# Altium footprint library SMT-6_6.3mm.PcbLib: 1 footprints
Each footprint in its own frame and in the unit in brackets; x right, y up, seen from the top. Pads: shape width x height; smd on the part's side, far side on the other; paste and mask are expansions set on the pad; w line width, h text height; cw(c..) or ccw(c..) is an arc to the next point about the centre after c.
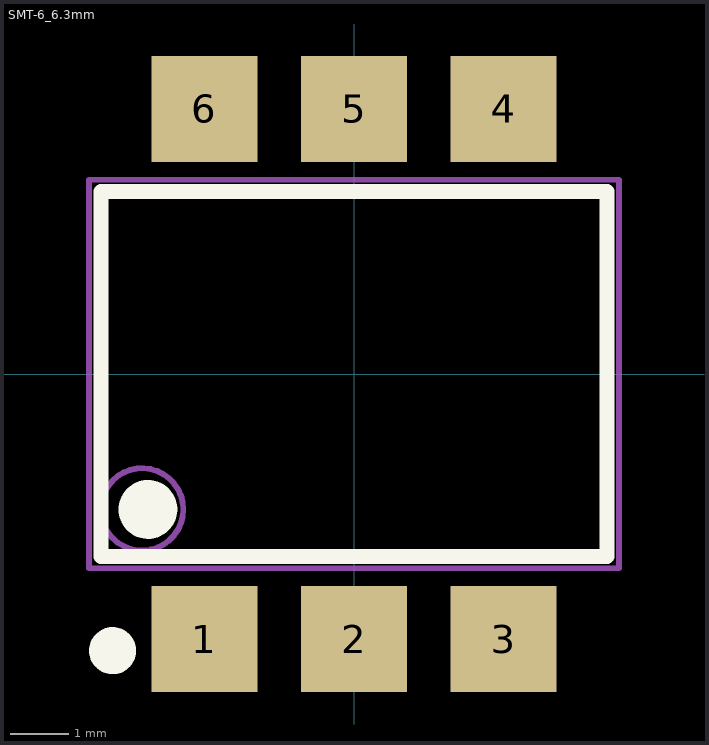
[diagram p0: the footprint, top view; thin cyan lines are the x and y axes]

## SMT-6_6.3mm [mm]
pads (6):
  rect 1.8x1.8 smd: 1(-2.54,-4.505) 2(0,-4.505) 3(2.54,-4.505) 4(2.54,4.505) 5(0,4.505) 6(-2.54,4.505)
Top Overlay:
  circle w0.5: c-3.5,-2.3 r0.25
  circle w0.4: c-4.1,-4.7 r0.2
  lines w0.254: -4.3,-3.1 -4.3,3.1 4.3,3.1 4.3,-3.1 -4.3,-3.1
Mechanical 13:
  circle w0.1: c-3.6,-2.3 r0.7
  lines w0.1: -4.5,-3.3 -4.5,3.3 4.5,3.3 4.5,-3.3 -4.5,-3.3